# Altium footprint library Antennas.PcbLib: 3 footprints
Each footprint in its own frame and in the unit in brackets; x right, y up, seen from the top. Pads: shape width x height; smd on the part's side, far side on the other; paste and mask are expansions set on the pad; w line width, h text height; cw(c..) or ccw(c..) is an arc to the next point about the centre after c.
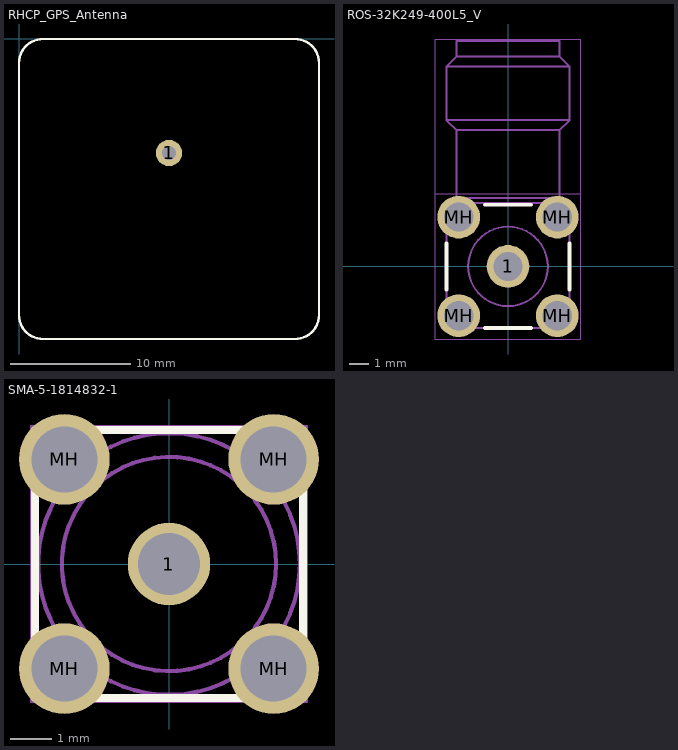
[diagram p0: the footprints below, top view; thin cyan lines are the x and y axes]

## RHCP_GPS_Antenna [mm] "RHCP Ceramic PCB GPS Antenna"
height 9.5
pads (1):
  round 2.2 hole 1.2: 1(12.5,-9.5)
Top Overlay:
  lines w0.2: 0,-23 ccw(c2,-23) 2,-25 23,-25 ccw(c23,-23) 25,-23 25,-2 ccw(c23,-2) 23,0 2,0 ccw(c2,-2) 0,-2 0,-23
3D body "146168-0001.stp": height 5.2, standoff -2.5, extent 0,-25 28.8,0

## ROS-32K249-400L5_V [mm]
pads (5):
  round 2.2 hole 1.5: 1(0,0) MH(-2.54,-2.54) MH(-2.54,2.54) MH(2.54,-2.54) MH(2.54,2.54)
Top Overlay:
  lines w0.2: -3.175,-1.181 -3.175,1.181 ; -1.181,-3.175 1.181,-3.175 ; -1.181,3.175 1.181,3.175 ; 3.175,-1.181 3.175,1.181
Top Assembly:
  circle w0.1: c0,0 r2.05
  circle w0.1: c0,0 r0.635
  lines w0.1: -3.175,-1.708 -2.161,-1.708 -2.02,-1.874 -1.866,-2.028 -1.7,-2.17 -1.7,-3.183 ; -3.175,1.708 -2.161,1.708 -2.02,1.874 -1.866,2.028 -1.7,2.17 -1.7,3.183 -2.9,3.183 -3.175,2.908 -3.175,-2.908 -2.9,-3.183 ; -2.9,-3.183 2.9,-3.183 ; 1.7,-3.183 1.7,-2.17 1.866,-2.028 2.02,-1.874 2.161,-1.708 3.175,-1.708 ; 2.9,-3.183 3.175,-2.908 3.175,2.908 2.9,3.183 1.7,3.183 1.7,2.17 1.866,2.028 2.02,1.874 2.161,1.708 3.175,1.708 ; -3.175,7.542 -2.65,7.017 ; -3.175,7.542 3.175,7.542 ; -3.175,7.542 -3.175,10.292 ; -3.175,10.292 -2.65,10.817 ; -3.175,10.292 3.175,10.292 ; -2.65,3.517 -2.9,3.267 2.9,3.267 2.65,3.517 ; -2.65,3.517 2.65,3.517 ; -2.65,3.517 -2.65,7.017 ; -2.65,7.017 2.65,7.017 ; -2.65,10.817 -2.65,11.617 2.65,11.617 2.65,10.817 ; -2.65,10.817 2.65,10.817 ; 2.65,3.517 2.65,7.017 ; 2.65,7.017 3.175,7.542 ; 2.65,10.817 3.175,10.292 ; 3.175,7.542 3.175,10.292 ; -3.04,-3.048 -3.04,-2.048 -2.04,-2.048 -2.04,-3.048 -3.04,-3.048 ; -3.04,2.032 -2.04,2.032 -2.04,3.032 -3.04,3.032 -3.04,2.032 ; 2.04,-3.048 3.04,-3.048 3.04,-2.048 2.04,-2.048 2.04,-3.048 ; 2.04,2.032 2.04,3.032 3.04,3.032 3.04,2.032 2.04,2.032
Top Component Outline:
  lines w0.05: -3.74,3.74 3.74,3.74 ; -3.74,-3.74 -3.74,11.717 3.74,11.717 3.74,-3.74 -3.74,-3.74
  lines w0.1: -0.5,0 0.5,0 ; 0,-0.5 0,0.5
3D body "32k249-400l5.stp": height 9.73, standoff -3.97, extent -3.175,-3.183 3.175,11.617

## SMA-5-1814832-1 [mm] "SMA Straight Jack"
height 9.5
pads (5):
  round 2 hole 1.5: 1(0,0)
  round 2.2 hole 1.6: MH(-2.54,-2.54) MH(-2.54,2.54) MH(2.54,-2.54) MH(2.54,2.54)
Top Overlay:
  lines w0.2: -3.25,-1.767 -3.25,1.767 ; -1.767,-3.25 1.767,-3.25 ; -1.767,3.25 1.767,3.25 ; 3.25,-1.767 3.25,1.767
Top Assembly:
  circle w0.1: c0,0 r0.635
  circle w0.1: c0,0 r2.6
  circle w0.1: c0,0 r3.175
  lines w0.1: -0.1,-0.627 -0.1,0.627 ; 0.1,-0.627 0.1,0.627 ; -2.84,-2.84 -2.729,-3.14 -2.351,-3.14 -2.24,-2.84 ; -2.84,-2.84 -2.665,-2.665 ; -2.84,-2.84 -2.84,-2.24 ; -2.84,-2.84 -2.24,-2.84 ; -2.84,-2.24 -2.729,-1.94 -2.351,-1.94 -2.24,-2.24 ; -2.84,-2.24 -2.24,-2.24 ; -2.84,-2.24 -2.665,-2.415 ; -2.84,2.24 -2.729,1.94 -2.351,1.94 -2.24,2.24 ; -2.84,2.24 -2.24,2.24 ; -2.84,2.24 -2.665,2.415 ; -2.84,2.24 -2.84,2.84 ; -2.84,2.84 -2.729,3.14 -2.351,3.14 -2.24,2.84 ; -2.84,2.84 -2.665,2.665 ; -2.84,2.84 -2.24,2.84 ; -2.665,-2.665 -2.415,-2.665 ; -2.665,-2.665 -2.665,-2.415 ; -2.665,-2.415 -2.415,-2.415 ; -2.665,2.415 -2.665,2.665 ; -2.665,2.415 -2.415,2.415 ; -2.665,2.665 -2.415,2.665 ; -2.415,-2.665 -2.24,-2.84 ; -2.415,-2.665 -2.415,-2.415 ; -2.415,-2.415 -2.24,-2.24 ; -2.415,2.415 -2.24,2.24 ; -2.415,2.415 -2.415,2.665 ; -2.415,2.665 -2.24,2.84 ; -2.24,-2.84 -2.24,-2.24 ; -2.24,2.24 -2.24,2.84 ; 2.24,-2.84 2.351,-3.14 2.729,-3.14 2.84,-2.84 ; 2.24,-2.84 2.24,-2.24 ; 2.24,-2.84 2.84,-2.84 ; 2.24,-2.84 2.415,-2.665 ; 2.24,-2.24 2.351,-1.94 2.729,-1.94 2.84,-2.24 ; 2.24,-2.24 2.415,-2.415 ; 2.24,-2.24 2.84,-2.24 ; 2.24,2.24 2.24,2.84 ; 2.24,2.24 2.84,2.24 ; 2.24,2.24 2.415,2.415 ; 2.24,2.24 2.351,1.94 2.729,1.94 2.84,2.24 ; 2.24,2.84 2.415,2.665 ; 2.24,2.84 2.84,2.84 ; 2.24,2.84 2.351,3.14 2.729,3.14 2.84,2.84 ; 2.415,-2.665 2.665,-2.665 ; 2.415,-2.665 2.415,-2.415 ; 2.415,-2.415 2.665,-2.415 ; 2.415,2.415 2.415,2.665 ; 2.415,2.415 2.665,2.415 ; 2.415,2.665 2.665,2.665 ; 2.665,-2.665 2.84,-2.84 ; 2.665,-2.665 2.665,-2.415 ; 2.665,-2.415 2.84,-2.24 ; 2.665,2.415 2.665,2.665 ; 2.665,2.415 2.84,2.24 ; 2.665,2.665 2.84,2.84 ; 2.84,-2.84 2.84,-2.24 ; 2.84,2.24 2.84,2.84 ; -3.25,-3.25 3.25,-3.25 3.25,3.25 -3.25,3.25 -3.25,-3.25
Top Component Outline:
  lines w0.05: -3.35,-3.35 -3.35,3.35 3.35,3.35 3.35,-3.35 -3.35,-3.35
  lines w0.1: -0.5,0 0.5,0 ; 0,-0.5 0,0.5
3D body "User Library-5-1814832-1.STEP": height 9.77, standoff -3.76, extent -3.175,-3.175 3.175,3.175